# Altium integrated library Relay_F1CA005V.IntLib: 2 symbols
Pins are listed as number, name and electrical type; pins without a type are passive.

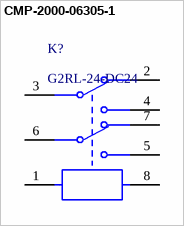
[diagram p0: symbol CMP-2000-06305-1]

## CMP-2000-06305-1
designator K?, comment G2RL-24-DC24
Low Profile Power Relay with 15.7 mm Height, Ideal for Incorporation in Miniature Equipment, 24 V, -40 to 85 degC, 8-Pin THD, RoHS, Bulk; Manufacturer: Omron; Contact Form: DPDT(2FormC); Coil Current: 16.7mA; Coil Type: Non-Latching; Contact Termination: Pin; Brand: OmronElectronics; Power Consumption: 400mW; Coil Voltage: 24V; Coil Resistance: 1.44kOhms; Product: PowerRelays; Series: G2RL-2; Length: 29mm; Factory Pack Quantity: 20; Height: 15.7mm; Mounting Technology: ThroughHole; Product Category: GeneralPurposeRelays; Datasheet URL: http://www.omron.com/ecb/products/pdf/en-g2rl.pdf; Package Description: 8-Pin Through Hole Device, Body 28.8 x 12.5 mm; Manufacturer URL: http://www.omron.com/; Type: HighCurrent; Contact Material: SilverNickel; Package Reference: G2RL-24; Datasheet Version: 03/2016; Width: 12.7mm; Mounting Style: ThroughHole; RoHS: Details
footprint OMRON-G2RL-24_V (THD, 8-Leads, Body 28.8x12.5mm)
footprint Relay_F1CA005V_Omron
pins: 1, 2, 3, 4, 5, 6, 7, 8


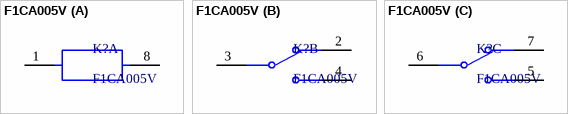
[diagram p1: symbol F1CA005V]

## F1CA005V
designator K?
footprint Relay_F1CA005V_Omron
footprint OMRON-G2RL-24_V
part A pins: 1, 8
part B pins: 2, 3, 4
part C pins: 5, 6, 7